# Altium footprint library DCDC_5V.PcbLib: 8 footprints
Each footprint in its own frame and in the unit in brackets; x right, y up, seen from the top. Pads: shape width x height; smd on the part's side, far side on the other; paste and mask are expansions set on the pad; w line width, h text height; cw(c..) or ccw(c..) is an arc to the next point about the centre after c.
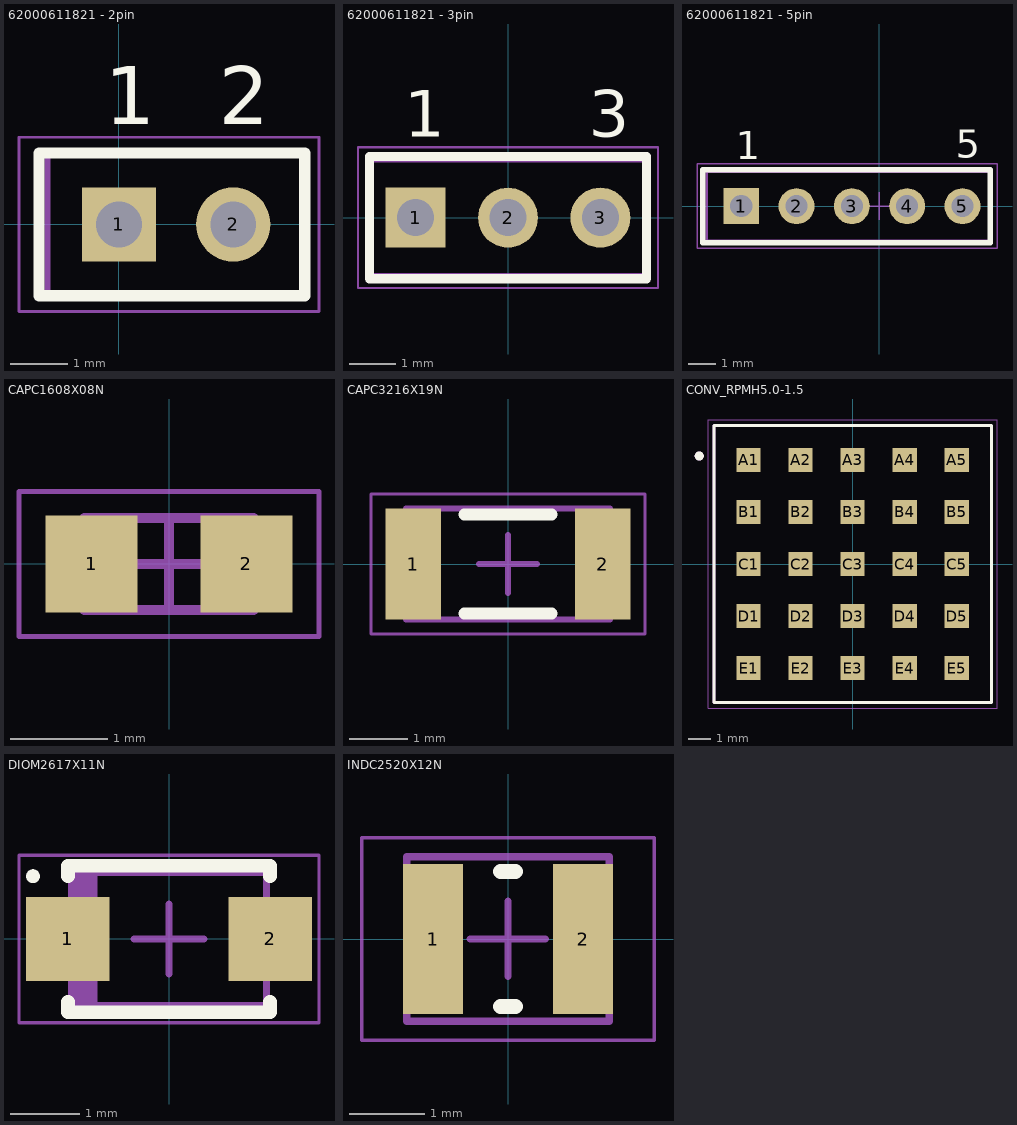
[diagram p0: the footprints below, top view; thin cyan lines are the x and y axes]

## 62000611821 - 2pin [mm] "Socket Header, Pitch 2.00 mm, THT, Vertical, single row, 6p"
height 4.45
pads (2):
  rect 1.3x1.3 hole 0.8: 1(0,0)
  round 1.3 hole 0.8: 2(2,0)
Top Overlay:
  lines w0.2: -1.4,-1.25 -1.4,1.25 3.25,1.25 3.25,0.875 3.25,0.062 3.25,-0.062 3.25,-0.375 3.25,-1.25 -1.4,-1.25
  text "1" at -0.25,1.75 h1.02
  text "2" at 1.75,1.75 h1.02
Top 3D Body:
  lines w0.1: -1.25,-1.25 -1.25,1.25 3.25,1.25 3.25,-1.25 -1.25,-1.25
Top Courtyard (Mech15):
  lines w0.05: -0.5,0 0.5,0 ; 0,-0.5 0,0.5 ; -1.75,-1.525 -1.75,1.525 3.5,1.525 3.5,1.512 3.5,-0.013 3.5,-1.525 -1.75,-1.525
3D body "62000611821-2pin.stp": height 4.35, standoff -2.65, extent -1.25,-1.25 3,1.25

## 62000611821 - 3pin [mm] "Socket Header, Pitch 2.00 mm, THT, Vertical, single row, 6p"
height 4.45
pads (3):
  rect 1.3x1.3 hole 0.8: 1(-2,0)
  round 1.3 hole 0.8: 2(0,0) 3(2,0)
Top Overlay:
  lines w0.2: -3,-1.325 -3,1.325 3,1.325 3,-1.325 -3,-1.325
  text "3" at 1.75,1.75 h1.02
  text "1" at -2.25,1.75 h1.02
Top 3D Body:
  lines w0.1: -3,-1.25 -3,1.25 3,1.25 3,-1.25 -3,-1.25
Top Courtyard (Mech15):
  lines w0.05: -0.5,0 0.5,0 ; 0,-0.5 0,0.5 ; -3.25,-1.525 3.25,-1.525 3.25,1.525 -3.25,1.525 -3.25,-1.525
3D body "62000611821-3pin.stp": height 4.4, standoff -2.6, extent -3.125,-1.25 3.125,1.25

## 62000611821 - 5pin [mm] "Socket Header, Pitch 2.00 mm, THT, Vertical, single row, 6p"
height 4.45
pads (5):
  rect 1.3x1.3 hole 0.8: 1(-5,0)
  round 1.3 hole 0.8: 2(-3,0) 3(-1,0) 4(1,0) 5(3,0)
Top Overlay:
  lines w0.2: -6.4,-1.325 4,-1.325 4,-0.75 4,0.806 4,1.325 -6.4,1.325 -6.4,-1.325
  text "5" at 2.75,1.75 h1.02
  text "1" at -5.2,1.7 h1.02
Top 3D Body:
  lines w0.1: -6.25,-1.25 4,-1.25 4,1.25 -6.25,1.25 -6.25,-1.25
Top Courtyard (Mech15):
  lines w0.05: -0.5,0 0.5,0 ; 0,-0.5 0,0.5 ; -6.6,-1.525 4.25,-1.525 4.25,1.525 -6.6,1.525 -6.6,-1.525
3D body "62000611821.stp": height 4.35, standoff -2.65, extent -6.25,-1.25 4,1.25

## CAPC1608X08N [mm] "Chip Capacitor, 2-Leads, Body 1.60x0.80mm, IPC Medium Density"
height 0.8
pads (2):
  rect 0.95x1 smd: 1(-0.8,0) 2(0.8,0)
Top Assembly:
  lines w0.1: -0.875,-0.475 0.875,-0.475 0.875,0.475 -0.875,0.475 -0.875,-0.475
  text "'.Designator'" at -0.875,-0.475 h1.5
Top Courtyard (Mech15):
  lines w0.05: -1.55,-0.75 1.55,-0.75 1.55,0.75 -1.55,0.75 -1.55,-0.75
  lines w0.1: -0.475,0 0.475,0 ; 0,-0.475 0,0.475
3D body "CAPC1608X08N.step": height 0.8, standoff 0, extent -0.875,-0.475 0.875,0.475

## CAPC3216X19N [mm] "Chip Capacitor, 2-Leads, Body 3.20x1.65mm, IPC Medium Density"
height 1.9
pads (2):
  rect 0.95x1.9 smd: 1(-1.625,0) 2(1.625,0)
Top Overlay:
  lines w0.2: -0.75,-0.85 0.75,-0.85 ; -0.75,0.85 0.75,0.85
Top Assembly:
  lines w0.1: -1.75,-0.95 -1.75,0.95 1.75,0.95 1.75,-0.95 -1.75,-0.95
Top Courtyard (Mech15):
  lines w0.05: -2.35,-1.2 -2.35,1.2 2.35,1.2 2.35,-1.2 -2.35,-1.2
  lines w0.1: -0.5,0 0.5,0 ; 0,-0.5 0,0.5
3D body "CAPC3216X19N.step": height 1.9, standoff 0, extent -1.75,-0.95 1.75,0.95

## CONV_RPMH5.0-1.5 [mm]
pads (25):
  rect 1.06x1.06 smd: A1(-4.58,4.58) A2(-2.29,4.58) A3(0,4.58) A4(2.29,4.58) A5(4.58,4.58) B1(-4.58,2.29) B2(-2.29,2.29) B3(0,2.29) B4(2.29,2.29) B5(4.58,2.29) C1(-4.58,0) C2(-2.29,0) C3(0,0) C4(2.29,0) C5(4.58,0) D1(-4.58,-2.29) D2(-2.29,-2.29) D3(0,-2.29) D4(2.29,-2.29) D5(4.58,-2.29) E1(-4.58,-4.58) E2(-2.29,-4.58) E3(0,-4.58) E4(2.29,-4.58) E5(4.58,-4.58)
Top Overlay:
  circle w0.2: c-6.75,4.75 r0.1
  lines w0.127: -6.1,-6.1 -6.1,6.1 6.1,6.1 6.1,-6.1 -6.1,-6.1
Top 3D Body:
  circle w0.2: c-6.75,4.75 r0.1
  lines w0.127: -6.1,-6.1 -6.1,6.1 6.1,6.1 6.1,-6.1 -6.1,-6.1
Top Courtyard (Mech15):
  lines w0.05: -6.35,-6.35 -6.35,6.35 6.35,6.35 6.35,-6.35 -6.35,-6.35
3D body "step_temp.STEP": height 3.97, standoff 0, extent -6.34,-6.195 6.35,6.195

## DIOM2617X11N [mm] "Molded Diode, 2-Leads, Body 2.60x1.70mm, IPC Medium Density"
height 1.1
pads (2):
  rect 1.2x1.2 smd: 1(-1.45,0) 2(1.45,0)
Top Overlay:
  circle w0.1: c-1.95,0.9 r0.05
  lines w0.2: -1.45,-0.9 -1.45,-1.05 1.45,-1.05 1.45,-0.9 ; -1.45,0.9 -1.45,1.05 1.45,1.05 1.45,0.9
Top Assembly:
  rectangle: -1.4,-0.95 -1.023,0.95
  lines w0.1: -1.4,-0.95 1.4,-0.95 1.4,0.95 -1.4,0.95 -1.4,-0.95
  text "'.Designator'" at -0.875,-0.475 h1.5
Top Courtyard (Mech15):
  lines w0.05: -2.15,-1.2 2.15,-1.2 2.15,1.2 -2.15,1.2 -2.15,-1.2
  lines w0.1: -0.5,0 0.5,0 ; 0,-0.5 0,0.5
3D body "User Library-SOD123W.step": height 1.1, standoff -0.01, extent -2,-0.95 2,0.95

## INDC2520X12N [mm] "Chip Inductor, 2-Leads, Body 2.50x2.00mm, IPC Medium Density"
height 1.2
pads (2):
  rect 0.8x2 smd: 1(-1,0) 2(1,0)
Top Overlay:
  lines w0.2: -0.1,-0.9 0.1,-0.9 ; -0.1,0.9 0.1,0.9
Top Assembly:
  lines w0.1: -1.35,-1.1 1.35,-1.1 1.35,1.1 -1.35,1.1 -1.35,-1.1
Top Courtyard (Mech15):
  lines w0.05: -1.95,-1.35 1.95,-1.35 1.95,1.35 -1.95,1.35 -1.95,-1.35
  lines w0.1: -0.5,0 0.5,0 ; 0,-0.5 0,0.5
3D body "INDC2520X12N.step": height 1.2, standoff 0, extent -1.35,-1.1 1.35,1.1